# Altium footprint library AnalogDevices_Matiushok.PcbLib: 9 footprints
Each footprint in its own frame and in the unit in brackets; x right, y up, seen from the top. Pads: shape width x height; smd on the part's side, far side on the other; paste and mask are expansions set on the pad; w line width, h text height; cw(c..) or ccw(c..) is an arc to the next point about the centre after c.
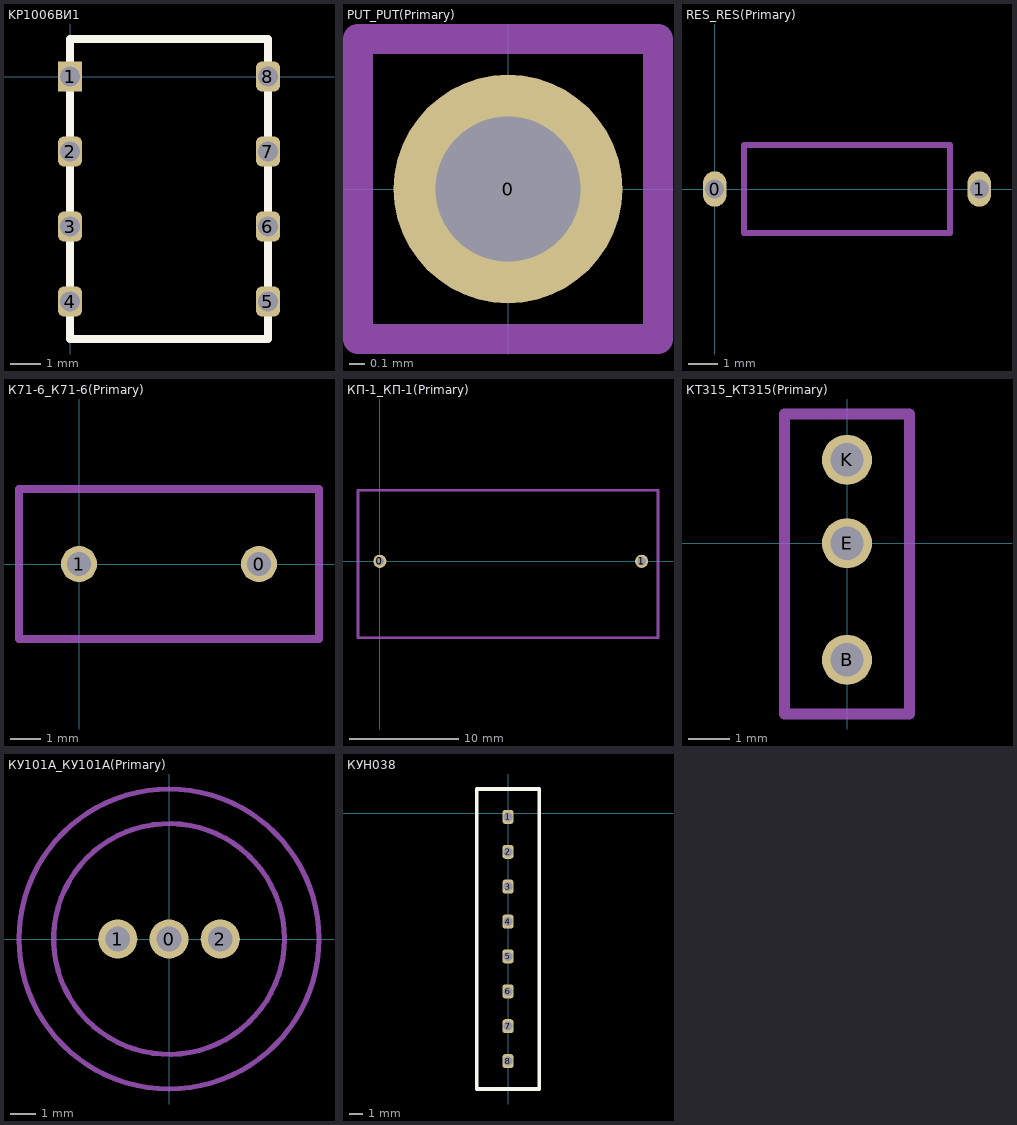
[diagram p0: the footprints below, top view; thin cyan lines are the x and y axes]

## KP1006ВИ1 [mm]
pads (8):
  rect 0.8x1 hole 0.65: 1(0,0)
  rrect50% 0.8x1 hole 0.65: 2(0,-2.5) 3(0,-5) 4(0,-7.5) 5(6.6,-7.5) 6(6.6,-5) 7(6.6,-2.5) 8(6.6,0)
Top Overlay:
  lines w0.254: 0,-8.75 6.6,-8.75 6.6,1.25 0,1.25 0,-8.75

## PCBComponent_1 [mm]

## PUT_PUT(Primary) [mil]
pads (1):
  round 60 hole 38: 0(0,0)
Mechanical 1:
  lines w7.87: -39.37,-39.37 39.37,-39.37 39.37,39.37 -39.37,39.37 -39.37,-39.37

## RES_RES(Primary) [mm]
pads (2):
  oval 0.8x1.2 hole 0.65: 0(0,0) 1(9,0)
Mechanical 1:
  lines w0.2: 1,-1.5 8,-1.5 8,1.5 1,1.5 1,-1.5

## К71-6_К71-6(Primary) [mm]
pads (2):
  round 1.2 hole 0.8: 0(6,0) 1(0,0)
Mechanical 1:
  lines w0.254: -2,-2.5 8,-2.5 8,2.5 -2,2.5 -2,-2.5

## КП-1_КП-1(Primary) [mm]
pads (2):
  round 1.2 hole 0.8: 0(0,0) 1(24,0)
Mechanical 1:
  lines w0.254: -2,-7 25.5,-7 25.5,6.5 -2,6.5 -2,-7

## КТ315_КТ315(Primary) [mm]
pads (3):
  round 1.2 hole 0.8: B(0,-2.8) E(0,0) K(0,2)
Mechanical 1:
  lines w0.254: -1.5,-4.1 -1.5,3.1 1.5,3.1 1.5,-4.1 -1.5,-4.1

## КУ101А_КУ101А(Primary) [mil]
pads (3):
  round 60 hole 38: 0(0,0) 1(-78.74,0) 2(78.74,0)
Mechanical 1:
  circle w7.87: c0,0 r230.31
  circle w7.87: c0,0 r177.17

## КУН038 [mm]
pads (8):
  rrect50% 0.8x1 hole 0.65: 1(0,-0.25) 2(0,-2.75) 3(0,-5.25) 4(0,-7.75) 5(0,-10.25) 6(0,-12.75) 7(0,-15.25) 8(0,-17.75)
Top Overlay:
  lines w0.254: -2.25,-19.75 2.25,-19.75 2.25,1.75 -2.25,1.75 -2.25,-19.75